# EAGLE library part MX829 (library cml-micro)
Baseband Signal Processor
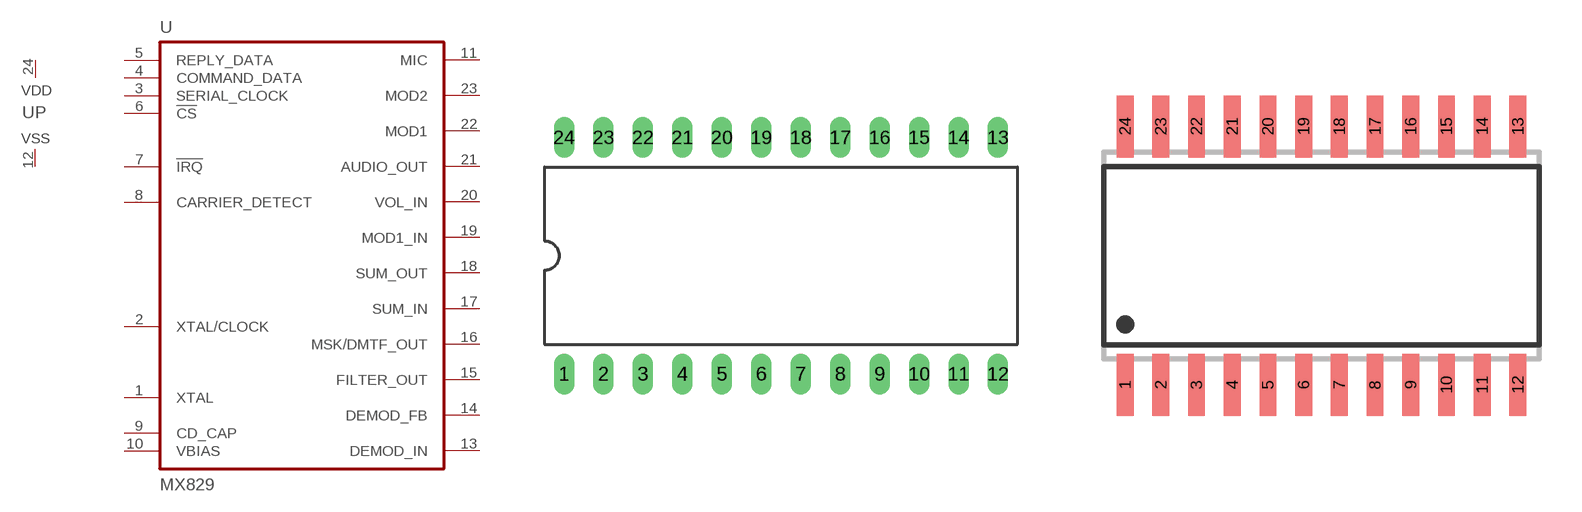
[diagram p3: symbol with the pads of DIL24-6; footprints DIL24-6, SO24W]

Designator prefix U; gates A=MX829 P=VDDVSS

## MX829P  [DIL24-6]
1  A:XTAL  out
2  A:XTAL/CLOCK  in
3  A:SERIAL_CLOCK
4  A:COMMAND_DATA
5  A:REPLY_DATA
6  A:!CS!
7  A:!IRQ!  out
8  A:CARRIER_DETECT  out
9  A:CD_CAP  out
10  A:VBIAS  in
11  A:MIC  in
12  P:VSS  pwr
13  A:DEMOD_IN  out
14  A:DEMOD_FB  out
15  A:FILTER_OUT  out
16  A:MSK/DMTF_OUT  out
17  A:SUM_IN  in
18  A:SUM_OUT  out
19  A:MOD1_IN  in
20  A:VOL_IN  in
21  A:AUDIO_OUT  out
22  A:MOD1  out
23  A:MOD2  out
24  P:VDD  pwr

## MX829DW  [SO24W]
Pads as for DIL24-6

## MX829DS  [SSOP24]
Pads as for DIL24-6

## Footprint DIL24-6 (pad centres in mm)
Dual In Line Package 0.6 inch
drill 0.813 long: 1 -13.97,-7.62; 2 -11.43,-7.62; 3 -8.89,-7.62; 4 -6.35,-7.62; 5 -3.81,-7.62; 6 -1.27,-7.62; 7 1.27,-7.62; 8 3.81,-7.62; 9 6.35,-7.62; 10 8.89,-7.62; 11 11.43,-7.62; 12 13.97,-7.62; 13 13.97,7.62; 14 11.43,7.62; 15 8.89,7.62; 16 6.35,7.62; 17 3.81,7.62; 18 1.27,7.62; 19 -1.27,7.62; 20 -3.81,7.62; 21 -6.35,7.62; 22 -8.89,7.62; 23 -11.43,7.62; 24 -13.97,7.62

## Footprint SO24W (pad centres in mm)
SMALL OUTLINE INTEGRATED CIRCUIT wide body 7.5 mm/JEDEC MO-119AA
smd 0.6 x 2.2: 1 -6.985,-4.6; 2 -5.715,-4.6; 3 -4.445,-4.6; 4 -3.175,-4.6; 5 -1.905,-4.6; 6 -0.635,-4.6; 7 0.635,-4.6; 8 1.905,-4.6; 9 3.175,-4.6; 10 4.445,-4.6; 11 5.715,-4.6; 12 6.985,-4.6; 13 6.985,4.6; 14 5.715,4.6; 15 4.445,4.6; 16 3.175,4.6; 17 1.905,4.6; 18 0.635,4.6; 19 -0.635,4.6; 20 -1.905,4.6; 21 -3.175,4.6; 22 -4.445,4.6; 23 -5.715,4.6; 24 -6.985,4.6

## Footprint SSOP24 (pad centres in mm)
Small Shrink Outline Package SOT340-1 / JEDEC MO-150AG
smd 0.4 x 1.2: 1 -3.575,-3.42; 2 -2.925,-3.42; 3 -2.275,-3.42; 4 -1.625,-3.42; 5 -0.975,-3.42; 6 -0.325,-3.42; 7 0.325,-3.42; 8 0.975,-3.42; 9 1.625,-3.42; 10 2.275,-3.42; 11 2.925,-3.42; 12 3.575,-3.42; 13 3.575,3.42; 14 2.925,3.42; 15 2.275,3.42; 16 1.625,3.42; 17 0.975,3.42; 18 0.325,3.42; 19 -0.325,3.42; 20 -0.975,3.42; 21 -1.625,3.42; 22 -2.275,3.42; 23 -2.925,3.42; 24 -3.575,3.42